# EAGLE library part SN74LVC2G04 (library NaugtyBall)
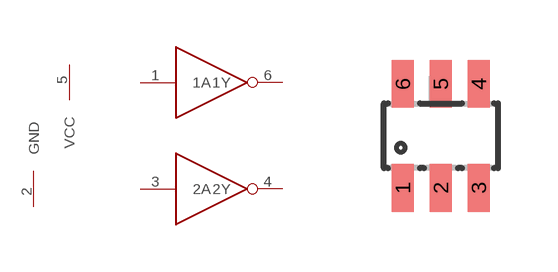
[diagram p2: symbol with the pads of SN74LVC2G04; footprint SN74LVC2G04]

Designator prefix DUALINV

## SN74LVC2G04  [SN74LVC2G04]
1  1A  in
2  GND
3  2A  in
4  2Y  out
5  VCC
6  1Y  out

## Footprint SN74LVC2G04 (pad centres in mm)
smd 0.55 x 1.2: 1 -0.95,-1.3; 2 0,-1.3; 3 0.95,-1.3; 4 0.95,1.3; 5 0,1.3; 6 -0.95,1.3